# Altium schematic symbol library LimeMicroAltiumLib.SchLib: 659 symbols (part 15 of 22)
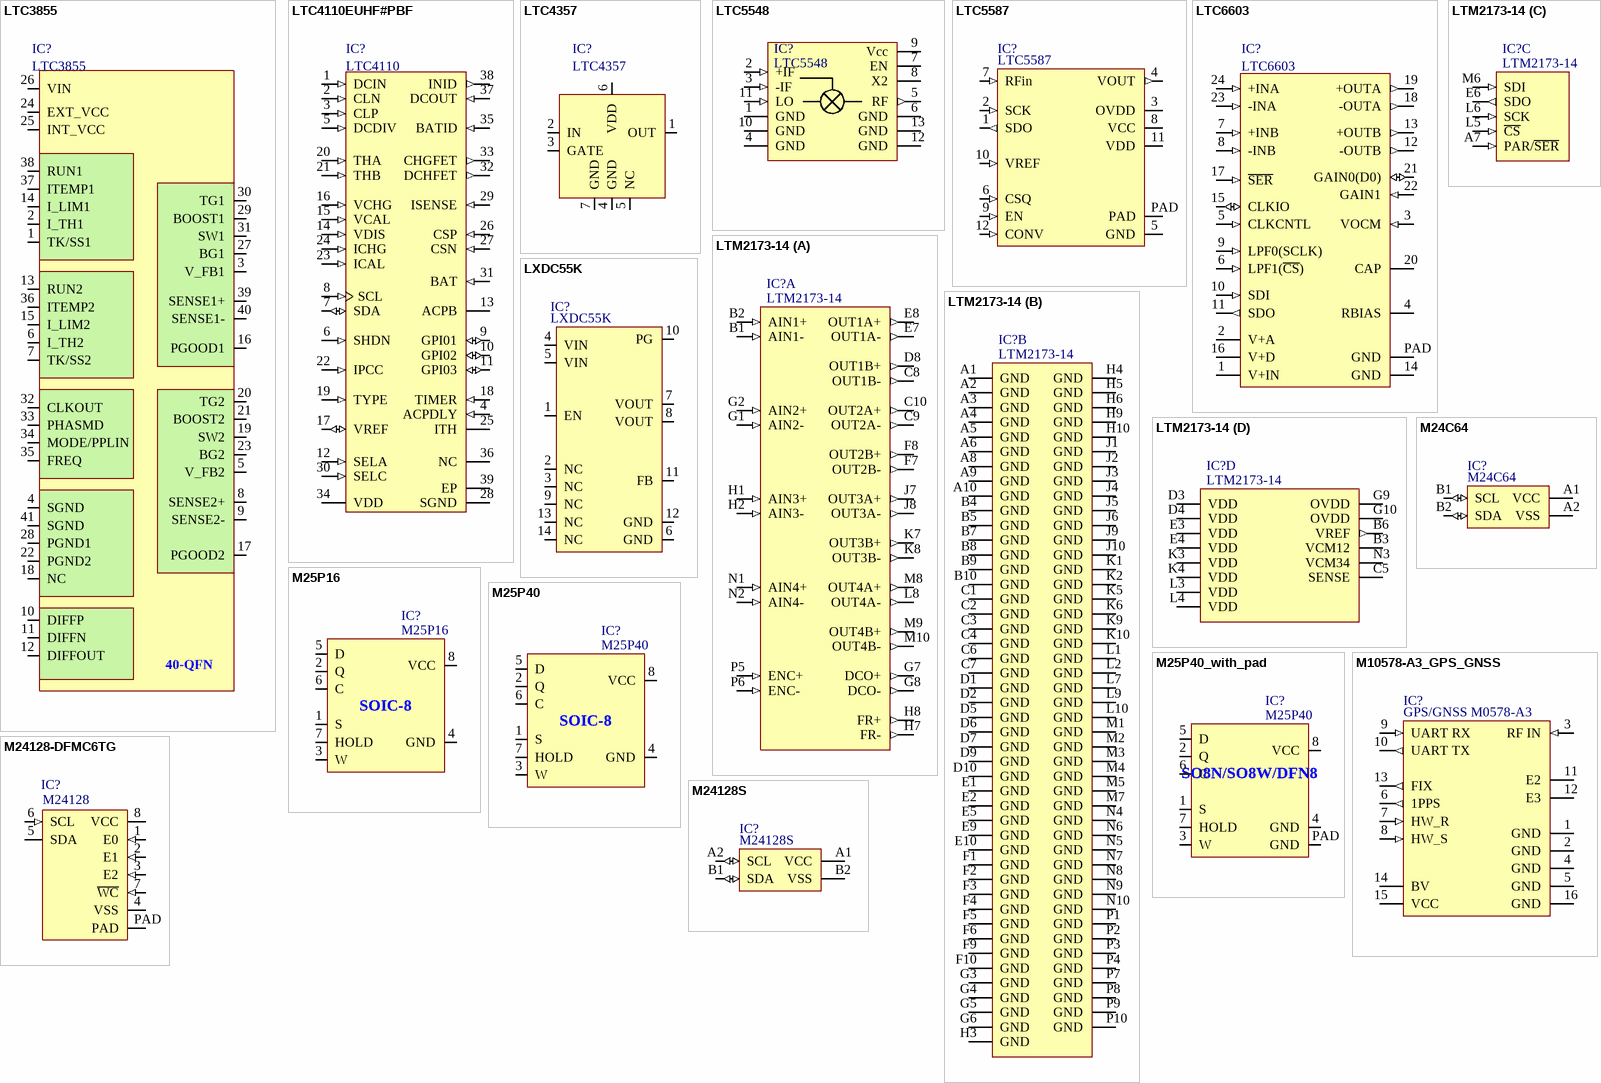
[diagram p92: symbols LTC3855 to M24128S]

## LTC4110EUHF#PBF
designator IC?, comment LTC4110
Battery Backup System Manager, 4.5 to 19 V Vin, 38-pin QFN (UHF-38), -40 to 85 degC, Pb-Free; Part Description: Battery Multi-Function Controller IC Multi-Chemistry 38-QFN (5x7); Manufacturer Part Number 1: LTC4110EUHF#PBF; Manufacturer: Linear Technology/Analog Devices; Supplier 1: Digi-Key; Supplier Part Number 1: LTC4110EUHF#PBF-ND
footprint LTC4110EUHF#PBF_QFN38 (QFN, 38-Leads, Body 7.1x5.1mm, Pitch 0.5mm, Thermal Pad 3.15x5.15mm, IPC Low Density)
pins: 1 DCIN (in) "External DC Power Sense Input. Provides a control input and supply for the main supply ideal diode function.", 2 CLN (in) "Current Limit Sense Negative Input. See CLP pin.", 3 CLP (in) "Current Limit Sense Positive Input. This pin and the CLN pin form a differential input that senses voltage on an external resistor for reverse current entering the power source while in low loss calibration mode. Should the (See Datasheet)", 4 ACPDLY (in) "ACPb Delay Control Pin. A capacitor connected from ACPDLY to GND and a resistor from VREF to GND programs delay in the ACPb pin high-to-low transition. Open if minimum delay is desired.", 5 DCDIV (in) "AC Present Detection Input. Backup operation is invoked when the system power voltage, divided by an external resistor divider, falls below the threshold of this pin.", 6 SHDN (in) "Active High Shutdown/Reset Control Logic Input. Forces micropower shutdown mode if high when DCIN supply is removed. Forces all registers to reset if high when DCIN supply is present. Normally tied to ground. Internal pin (See Datasheet)", 7 SDA (io) "SMBus Bidirectional Data Signal. Connect to VDD when not in use.", 8 SCL (in) "SMBus Clock Signal Input From SMBus Host. Connect to VDD when not in use.", 9 GPI01 (io) "General Purpose I/O or Charge Status Pin. A logic-level I/O bit port that is configurable as a host-driven input/output port or as a battery charge status output (CHGb) with an open-drain N-MOSFET that is asserted low when (See Datasheet)", 10 GPI02 (io) "General Purpose I/O Pin. A logic-level I/O bit port that is configurable as a host-driven input/output port or as a battery undervoltage status output (BKUP_FLTb) with an open-drain N-MOSFET that is asserted low only while (See Datasheet)", 11 GPI03 (io) "General Purpose I/O Pin. A logic-level I/O bit port that is configurable as a host-driven input/output port or as a calibration complete status output (CAL_COMPLETEb) with an open-drain N-MOSFET that is asserted low when (See Datasheet)", 12 SELA (in) "SMBus Address Selection Input. Selects the LTC4110 SMBus address to facilitate redundant backup systems when standard batteries are used. Connect to GND for 12h, VDD for 28h and the VREF pin for 20h. When a smart battery is (See Datasheet)", 13 ACPB (oc) "AC Present Status Digital Output. Open-Drain N-MOSFET output is asserted low when the main supply is present as detected by the DCDIV pin and internal DCIN UVLO.", 14 VDIS (in) "Battery Discharge Voltage Limit During Backup Program Input. Battery threshold voltage at which backup mode will terminate by turning off the isolation P-MOSFET with the BATID pin. Adjustable from external resistor string (See Datasheet)", 15 VCAL (in) "Battery Voltage Limit During Calibration Program Input. Battery threshold voltage at which calibration will terminate. Adjustable from external resistor string biased from VREF pin. For default threshold connect to GND pin.", 16 VCHG (in) "Battery Float Voltage Program Input. Trims the float voltage during charging. Programmed from external resistor string biased from VREF pin. Connect to GND for default float voltage.", 17 VREF (io) "Voltage Reference Output and Timing Programming Input. Provides a typical virtual reference of 1.220V (VREF) for an external resistor divider tied between this pin and GND that programs the VCHG, VCAL and VDIS pin functions. (See Datasheet)", 18 TIMER (in) "Charge Timing Input. A capacitor connected between TIMER and GND along with the resistance connected from VREF to GND programs the charge time intervals.", 19 TYPE (in) "Refer to Table 8.", 20 THA (in) "Safety Signal Force/Sense Pin to Smart Battery and Force Pin to Lead Acid Battery Thermistor. See description of operation for more detail. The maximum allowed combined capacitance on THA, THB and Safety Signal is 1nF. For (See Datasheet)", 21 THB (in) "Safety Signal Force/Sense Pin to Smart Battery and Sense Pin to Lead Acid Battery Thermistor. See description of operation for more detail. The maximum allowed combined capacitance on THA, THB and Safety Signal is 1nF.", 22 IPCC (in) "Battery Preconditioning Charge Current Program Input. Programs the battery current during preconditioning or wakeup charging. Programmed from external resistor to GND.", 23 ICAL (in) "Battery Discharge Current During Calibration Program Input. Programs the constant discharge current at the battery during calibration. Programmed from external resistor to GND.", 24 ICHG (in) "Battery Current During Charge Program Input. Programs the battery current while constant-current bulk charging. Programmed from external resistor to GND.", 25 ITH "Control Signal of the Current Mode PWM. AC compensates control loop. Higher ITH voltage corresponds to higher charging current.", 26 CSP (in) "Current Sense Positive Input. This pin and the CSN pin measure voltage across the external current sense resistor to control battery current during charging and calibration.", 27 CSN (in) "Current Sense Negative Input. This pin and the CSP pin measure voltage across the external current sense resistor to control battery current during charging and calibration.", 28 SGND (power) "Signal Ground Reference Input. This pin should be Kelvin connected to the flyback current sense resistor and to the battery return.", 29 ISENSE (in) "Current Sense Input. Senses current in the flyback transformer by monitoring voltage across the external current sense resistor. This pin should be Kelvinconnected to the resistor.", 30 SELC (in) "Refer to Table 8.", 31 BAT (in) "Battery Voltage Sense Input. This pin is used to monitor the battery and control charging voltage through an internal resistor divider connected to this pin that is disconnected in shutdown mode. Also provides a control (See Datasheet)", 32 DCHFET (out) "Drives the Gate of an External N-MOSFET. Used to drive energy into the battery side of the high efficiency switch mode converter during low loss calibration discharge of the battery. Provides synchronous rectification during (See Datasheet)", 33 CHGFET (out) "Drives the Gate of an External N-MOSFET. Used to drive energy into the supply side of the high efficiency switch mode converter during battery charging. Provides synchronous rectification during low loss calibration mode.", 34 VDD (power) "Bypass Capacitor Connection for Internal VDD Regulator. Bypass at pin with 100nF low ESR capacitor to GND.", 35 BATID (in) "Drives the Gate of the Battery P-MOSFET Ideal Diode. Controls low loss ideal diode between the battery and backup load when in backup mode. When not in backup mode, the P-MOSFET is turned off to prevent battery power from (See Datasheet)", 36 NC "No Connect.", 37 DCOUT (in) "System Power Output Voltage Monitor Input. Provides a control input for supply input ideal diode and battery ideal diode functions. Also supplies power to the IC. Bypass at pin with 100nF low ESR capacitor to GND.", 38 INID (out) "Drives the Gate of the Supply Input P-MOSFET Ideal Diode. Controls low loss ideal diode between the supply input and backup load when not in backup mode.", 39 EP (power) "Ground. The Exposed Pad must be soldered to the PCB."

## LTC4357
designator IC?
Manufacturer Part Number: LTC4357IDCB#TRMPBF; Current - Supply: 500µA; Delay Time - OFF: 300ns; Voltage - Supply: 9 V ~ 80 V; FET Type: N-Channel; Supplier 1: Digi-Key; Type: N+1 ORing Controller; Category: Integrated Circuits (ICs); Applications: Automotive, Redundant Power Supplies, Telecom Infrastructure; Operating Temperature: -40°C ~ 85°C; Supplier Device Package: 6-DFN (2x3); Supplier Part Number: LTC4357IDCB#TRMPBFDKR-ND
footprint LTC4357 (SON, 6-Leads, Body 2,00x3,00mm, Pitch 0,50mm, Thermal Pad 1,35x1,12mm, IPC Medium Density)
pins: 1 OUT, 2 IN, 3 GATE, 4 GND, 5 NC, 6 VDD, 7 GND

## LTC5548
designator IC?
Frequency Mixer 2 GHz to 12 GHz; Manufacturer: Analog Devices / Linear Technology; Manufacturer Part Number: LTC5548IUDB#TRMPBF; Frequency: 14GHz; Noise Figure: 9.6dB; Operating Supply Current: 136mA; Min Supply Voltage: 3V; Max Supply Voltage: 3.6V; Supplier 1: Digi-Key; Stock 1: 1418; Pricing 1: 1=19.06, 25=15.2464, 100=12.425, 250=12.14472 (USD); Case/Package: QFN; Number of Pins: 12; Min Operating Temperature: -40°C; Max Operating Temperature: 105°C; Packaging: Tape and Reel; Max Frequency: 14GHz; REACH SVHC: No SVHC; Supplier Part Number 1: LTC5548IUDB#TRMPBFCT-ND
footprint LTC5548_FROM_ULTRA_LABRARIAN
pins: 1 GND, 2 +IF (in), 3 -IF (in), 4 GND, 5 RF (out), 6 GND, 7 EN, 8 X2, 9 Vcc, 10 GND, 11 LO (in), 12 GND, 13 GND

## LTC5587
designator IC?
Manufacturer: Linear Technology/Analog Devices; Manufacturer Part Number: LTC5587IDD#TRPBF; Part Description: RF Detector IC CDMA, GSM, EDGE, W-CDMA 10MHz ~ 6GHz -34dBm ~ 6dBm ±1dB 12-WFDFN Exposed Pad; Frequency: 10MHz ~ 6GHz; RF Type: CDMA, GSM, EDGE, W-CDMA; Input Range: -34dBm ~ 6dBm; Accuracy: ±1dB; Voltage - Supply: 2.7 V ~ 3.6 V; Supplier 1: Digi-Key; RoHS: RoHS Compliant; Category: RF/IF and RFID; Stock 1: 0; Pricing 1: 2500=6.49745 (USD); Packaging: Tape & Reel (TR); Part Status: Active; Package / Case: 12-WFDFN Exposed Pad; Supplier Device Package: 12-DFN (3x3); ComponentLink1URL: http://www.linear.com/docs/29700; ComponentLink1Description: http://www.linear.com/docs/29700; Supplier Part Number 1: LTC5587IDD#TRPBFTR-ND
footprint LTC5587_DFN12
pins: 1 SDO (out), 2 SCK (in), 3 OVDD (power), 4 VOUT (out), 5 GND, 6 CSQ (in), 7 RFin (in), 8 VCC (power), 9 EN (in), 10 VREF (in), 11 VDD (power), 12 CONV (in), PAD

## LTC6603
designator IC?
Part Description: Low Pass Filter IC Low Pass 9th Order 2.5MHz 24-QFN (4x4); Manufacturer: Analog Devices / Linear Technology; Manufacturer Part Number 1: LTC6603IUF#PBF; Nominal Gain Bandwidth Product: 2.5MHz; Max Supply Voltage: 3.6V; Min Supply Voltage: 2.7V; Operating Supply Voltage: 3V; Number of Circuits: 2; Input Offset Voltage (Vos): 8mV; Supplier 1: Mouser; Supplier Part Number 1: 584-LTC6603IUF#PBF; Stock 1: 219; Pricing 1: 1=16,66000, 25=13,32000, 100=10,86000, 250=10,61000, 500=10,20000 (USD); RoHS: Yes; Case/Package: QFN; Number of Pins: 24; Min Operating Temperature: -40°C; Max Operating Temperature: 85°C; Package Quantity: 91; Type: Active; Packaging: Rail/Tube; Number of Channels: 2; Radiation Hardening: No; Lead Free: Lead Free; ComponentLink1URL: https://datasheet.ciiva.com/1779/26885-1779299.pdf?src-supplier=Digi-Key; ComponentLink1Description: https://datasheet.ciiva.com/1779/26885-1779299.pdf?src-supplier=Digi-Key; ComponentLink2URL: https://datasheet.ciiva.com/1150/1712310-1150994.pdf?src-supplier=Element14; ComponentLink2Description: https://datasheet.ciiva.com/1150/1712310-1150994.pdf?src-supplier=Element14; ComponentLink3URL: https://datasheet.ciiva.com/1153/1712310-1153853.pdf?src-supplier=Farnell; ComponentLink3Description: https://datasheet.ciiva.com/1153/1712310-1153853.pdf?src-supplier=Farnell
footprint LTC6603_QFN24
pins: 1 V+IN (power) "Input Voltage Supply (2.7V =< V =< 5.5V). This supply must be kept free from noise and ripple. It should be bypassed directly to a ground plane with a 0.1uF capacitor unless it is tied to V+A (Pin 2). The bypass should be as (See Datasheet)", 2 V+A (power) "Analog Voltage Supply (2.7V =< V =< 3.6V). This supply must be kept free from noise and ripple. It should be bypassed directly to a ground plane with a 0.1uF capacitor. The bypass should be as close as possible to the IC.", 3 VOCM (in) "Output common mode voltage reference. If floated, an internal resistive divider sets the voltage on this pin to half the supply voltage (typically 1.5V), maximizing the dynamic range of the filter. If this pin is floated, it (See Datasheet)", 4 RBIAS "Oscillator Frequency-Setting Resistor Input. The value of the resistor connected between this pin and ground determines the frequency of the master oscillator, and sets the bias currents for the fi lter networks. The voltage (See Datasheet)", 5 CLKCNTL (in) "Clock Control Input. This three-state input selects the function of CLKIO (Pin 15). Tying the CLKCNTL pin to ground allows the CLKIO pin to be driven by an external clock (CLKIO is the master clock input).", 6 LPF1(~{CS}) (in) "TTL Level Input. When in pin programmable control mode, this pin is the MSB of the lowpass cutoff frequency control code; in serial control mode, this pin is the chip select input (active low).", 7 +INB (in) "Channel B Differential Inputs. The input range and input resistance are described in the Applications Information section. Input voltages which exceed V+IN (Pin 1) should be avoided.", 8 -INB (in) "Channel B Differential Inputs. The input range and input resistance are described in the Applications Information section. Input voltages which exceed V+IN (Pin 1) should be avoided.", 9 LPF0(SCLK) (in) "TTL Level Input. When in pin programmable control mode, this pin is the LSB of the lowpass cutoff frequency control code; in serial control mode, this pin is the clock of the serial interface.", 10 SDI (in) "TTL Level Input. When in pin programmable control mode, this pin is left floating; in serial control mode, this pin is the serial data input.", 11 SDO (out) "TTL Level Input. When in pin programmable control mode, this pin is left floating; in serial control mode, this pin is the serial data output.", 12 -OUTB (out) "Channel B differential filter outputs. These pins can drive 1k and/or 50pF loads. For larger capacitive loads, an external 100ohm series resistor is recommended for each output. The common mode voltage of the filter outputs (See Datasheet)", 13 +OUTB (out) "Channel B differential filter outputs. These pins can drive 1k and/or 50pF loads. For larger capacitive loads, an external 100ohm series resistor is recommended for each output. The common mode voltage of the filter outputs (See Datasheet)", 14 GND (power) "Ground. Connect to a ground plane for best performance.", 15 CLKIO (io) "When CLKCNTL (Pin 5) is tied to ground, CLKIO is the master clock input. When CLKCNTL is floated, CLKIO is pulled to ground by a weak pulldown. When CLKCNTL is tied to V+D (Pin 16), CLKIO is the master clock output. When (See Datasheet)", 16 V+D (power) "Digital Voltage Supply (2.7V =< V =< 3.6V). This supply must be kept free from noise and ripple. It should be bypassed directly to a ground plane with a 0.1uF capacitor. The bypass should be as close as possible to the IC.", 17 ~{SER} (in) "Interface Selection Input. When tied to V+D (Pin 16) or floated, the interface is in pin programmable control mode, i.e. the filter gain and cutoff frequencies are programmed by the GAIN1, GAIN0, LPF1 and LPF0 pins. When (See Datasheet)", 18 -OUTA (out) "Channel A differential filter outputs. These pins can drive 1k and/or 50pF loads. For larger capacitive loads, an external 100ohm series resistor is recommended for each output. The common mode voltage of the filter outputs (See Datasheet)", 19 +OUTA (out) "Channel A differential filter outputs. These pins can drive 1k and/or 50pF loads. For larger capacitive loads, an external 100ohm series resistor is recommended for each output. The common mode voltage of the filter outputs (See Datasheet)", 20 CAP "Connect a 0.1uF bypass capacitor to this pin. Pin 20 is a buffered version of Pin 3.", 21 GAIN0(D0) (io) "TTL Level Input. When in pin programmable control mode, this pin is the LSB of the gain control code; in serial control mode, this pin is the LSB of the serial control register, an output.", 22 GAIN1 (in) "TTL Level Input. When in pin programmable control mode, this pin is the MSB of the gain control code; in serial control mode, this pin is a no-connect.", 23 -INA (in) "Channel A Differential Inputs. The input range and input resistance are described in the Applications Information section. Input voltages which exceed V+IN (Pin 1) should be avoided.", 24 +INA (in) "Channel A Differential Inputs. The input range and input resistance are described in the Applications Information section. Input voltages which exceed V+IN (Pin 1) should be avoided.", PAD GND (power) "Ground. The Exposed Pad must be soldered to PCB."

## LTM2173-14
designator IC?
Analog to Digital Converters - ADC 14-bit, 80Msps, 1.8V Low Noise Quad ADC, Serial LVDS Outputs; Manufacturer: Analog Devices; Manufacturer Part Number 1: LTC2271IUKG#PBF; Supplier Part Number 1: 584-LTC2271IUKG#PBF; Part Description: Analog to Digital Converters - ADC 14-bit, 80Msps, 1.8V Low Noise Quad ADC, Serial LVDS Outputs; Supplier 1: Mouser
footprint LTM2173_14_BGA9x11.25_140
part A pins: B1 AIN1- (in), B2 AIN1+ (in), C8 OUT1B- (out), C9 OUT2A- (out), C10 OUT2A+ (out), D8 OUT1B+ (out), E7 OUT1A- (out), E8 OUT1A+ (out), F7 OUT2B- (out), F8 OUT2B+ (out), G1 AIN2- (in), G2 AIN2+ (in), G7 DCO+ (out), G8 DCO- (out), H1 AIN3+ (in), H2 AIN3- (in), H7 FR- (out), H8 FR+ (out), J7 OUT3A+ (out), J8 OUT3A- (out), K7 OUT3B+ (out), K8 OUT3B- (out), L8 OUT4A- (out), M8 OUT4A+ (out), M9 OUT4B+ (out), M10 OUT4B- (out), N1 AIN4+ (in), N2 AIN4- (in), P5 ENC+ (in), P6 ENC- (in)
part B pins: A1 GND, A2 GND, A3 GND, A4 GND, A5 GND, A6 GND, A8 GND, A9 GND, A10 GND, B4 GND, B5 GND, B7 GND, B8 GND, B9 GND, B10 GND, C1 GND, C2 GND, C3 GND, C4 GND, C6 GND, C7 GND, D1 GND, D2 GND, D5 GND, D6 GND, D7 GND, D9 GND, D10 GND, E1 GND, E2 GND, E5 GND, E9 GND, E10 GND, F1 GND, F2 GND, F3 GND, F4 GND, F5 GND, F6 GND, F9 GND, F10 GND, G3 GND, G4 GND, G5 GND, G6 GND, H3 GND, H4 GND, H5 GND, H6 GND, H9 GND, H10 GND, J1 GND, J2 GND, J3 GND, J4 GND, J5 GND, J6 GND, J9 GND, J10 GND, K1 GND, K2 GND, K5 GND, K6 GND, K9 GND, K10 GND, L1 GND, L2 GND, L7 GND, L9 GND, L10 GND, M1 GND, M2 GND, M3 GND, M4 GND, M5 GND, M7 GND, N4 GND, N5 GND, N6 GND, N7 GND, N8 GND, N9 GND, N10 GND, P1 GND, P2 GND, P3 GND, P4 GND, P7 GND, P8 GND, P9 GND, P10 GND
part C pins: A7 PAR/~{SER} (in), E6 SDO (out), L5 ~{CS} (in), L6 SCK (in), M6 SDI (in)
part D pins: B3 VCM12 (power), B6 VREF (out), C5 SENSE (power), D3 VDD (power), D4 VDD (power), E3 VDD (power), E4 VDD (power), G9 OVDD (power), G10 OVDD (power), K3 VDD (power), K4 VDD (power), L3 VDD (power), L4 VDD (power), N3 VCM34 (power)

## LXDC55K
designator IC?
LXDC55KAAA-205; Manufacturer: Murata Electronics North America; Power (Watts) - Manufacture Series: 11W; Current - Output (Max): 3A; Efficiency: 93%; Voltage - Input (Min): 2.7V; Voltage - Input (Max): 5.5V; Voltage - Output 1: 0.8 ~ 3.6 V; Number of Outputs: 1; Supplier 1: Digi-Key; Manufacturer Part Number 1: LXDC55KAAA-205; Category: Power Supplies - Board Mount; Type: Non-Isolated PoL Module; Package / Case: 14-SMD Module; Voltage - Output 3: -; Mounting Type: Surface Mount; Applications: ITE (Commercial); RoHS: RoHS Compliant; Power (Watts) - Max: 11W; Voltage - Output 2: -; Features: OCP, OTP, UVLO; Operating Temperature: -40°C ~ 85°C; Packaging: Digi-Reel®; Voltage - Isolation: -; Size / Dimension: 0.224" L x 0.224" W x 0.079" H (5.70mm x 5.70mm x 2.00mm); Supplier Part Number 1: 490-7312-6-ND
footprint LXDC55K
pins: 1 EN, 2 NC, 3 NC, 4 VIN, 5 VIN, 6 GND, 7 VOUT, 8 VOUT, 9 NC, 10 PG, 11 FB, 12 GND, 13 NC, 14 NC

## M24C64
designator IC?
Manufacturer Part Number 1: M24C64-FCU6TP/TF; Access Time: 450 ns; Organization: 8 k x 8; Brand: STMicroelectronics; Supply Current - Max: 1.5 mA, 2.5 mA; Interface Type: I2C; Memory Size: 64 kbit; Maximum Clock Frequency: 1 MHz; Data Retention: 200 Years; Supply Voltage - Max: 5.5 V; Operating Supply Voltage: 1.6 V to 5.5 V; Supply Voltage - Min: 1.6 V; Product Status: New Product; Supplier 1: Mouser; Manufacturer: STMicroelectronics; Series: Standard Serial EEPROM; Category: EEPROM; Mounting Style: SMD/SMT; RoHS: RoHS Compliant; Package / Case: WLCSP-4; Operating Supply Current: 1.5 mA, 2.5 mA; Maximum Operating Temperature: + 85 C; Minimum Operating Temperature: - 40 C; RoHS - Mouser: Y; Minimum Order Quantity: 1; Reeling: False; Supplier Part Number 1: 511-M24C64-FCU6TP/TF
footprint M24C64
pins: A1 VCC, A2 VSS, B1 SCL (io), B2 SDA (io)

## M25P16
designator IC?
Manufacturer: Micron Technology Inc; Voltage - Supply: 2.7 V ~ 3.6 V; Memory Size: 16M (2M x 8); Speed: 75MHz; Supplier 1: Digi-Key; Supplier: Digi-Key; Supplier Device Package: 8-SO W; Supplier Part Number: M25P16-VMW6TGCT-ND
footprint M25P16_SO8 (SOIC, 8-Leads, Body 4,90x3,90mm, Pitch 1,27mm, IPC Medium Density)
pins: 1 S, 2 Q, 3 W, 4 GND, 5 D, 6 C, 7 HOLD, 8 VCC
text: SOIC-8

## M25P40
designator IC?
Manufacturer: Micron Technology Inc; Memory Size: 4M (512K x 8); Voltage - Supply: 2.3 V ~ 3.6 V; Supplier 1: Digi-Key; Supplier Device Package: 8-SO; Supplier: Digi-Key; Supplier Part Number: M25P40-VMN6TPBTR-ND
footprint M25P40-VMN6TPB_SO8N (SOIC, 8-Leads, Body 4,90x3,90mm, Pitch 1,27mm, IPC Medium Density)
pins: 1 S, 2 Q, 3 W, 4 GND, 5 D, 6 C, 7 HOLD, 8 VCC
text: SOIC-8

## M25P40_with_pad
designator IC?, comment M25P40
Manufacturer: Micron Technology Inc; Memory Size: 4M (512K x 8); Voltage - Supply: 2.3 V ~ 3.6 V; Supplier 1: Digi-Key; Supplier Device Package: 8-SO; Supplier: Digi-Key; Supplier Part Number: M25P40-VMN6TPBTR-ND
footprint S25FL164K_WSON8_DFN6 (WSON8 and DFN8 6x5mm compatible footprint)
pins: 1 S, 2 Q, 3 W, 4 GND, 5 D, 6 C, 7 HOLD, 8 VCC, PAD GND
text: SO8N/SO8W/DFN8

## M10578-A3_GPS_GNSS
designator IC?, comment GPS/GNSS M0578-A3
Manufacturer: Antenova; Manufacturer Part Number 1: M10578-A3; Part Description: RADIONOVA RF Receiver GPS 1.575GHz -165dBm Module; Frequency: 1.575GHz; Sensitivity: -165dBm; Modulation or Protocol: GPS; Current - Receiving: 28mA; Data Interface: UART; Voltage - Supply: 3.3V; Supplier 1: Digi-Key; RoHS: RoHS Compliant; Category: RF/IF and RFID; Stock 1: 0; Pricing 1: 1=17.75, 10=16.061, 25=14.7928, 100=13.5248, 250=12.67952, 500=11.8342 (USD); Packaging: Cut Tape (CT); Part Status: Active; Data Rate (Max): -; Applications: General Purpose; Memory Size: -; Antenna Connector: -; Features: -; Operating Temperature: -40°C ~ 85°C; Package / Case: Module; Supplier Device Package: Module; ComponentLink1URL: http://www.antenova-m2m.com/wp-content/uploads/2015/12/GPS_Radionova_M10578-A3-PS-1.0.pdf; ComponentLink1Description: http://www.antenova-m2m.com/wp-content/uploads/2015/12/GPS_Radionova_M10578-A3-PS-1.0.pdf; Supplier Part Number 1: 627-1074-1-ND
footprint M10578-A3 (RADIONOVA® RF Receiver GPS 1.575GHz -165dBm Module)
pins: 1 GND, 2 GND, 3 RF IN (in), 4 GND, 5 GND, 6 1PPS (out), 7 HW_R (in), 8 HW_S (in), 9 UART RX (in), 10 UART TX (out), 11 E2, 12 E3, 13 FIX (out), 14 BV (power), 15 VCC (power), 16 GND

## M24128-DFMC6TG
designator IC?, comment M24128
Manufacturer: STMicroelectronics; Manufacturer Part Number 1: M24128-DFMC6TG; Part Description: EEPROM Memory IC 128Kb (16K x 8) I²C 1MHz 450ns 8-UFDFPN (2x3); Memory Type: Non-Volatile; Memory Format: EEPROM; Memory Size: 128Kb (16K x 8); Write Cycle Time - Word, Page: 5ms; Memory Interface: I²C; Voltage - Supply: 1.7 V ~ 5.5 V; Supplier 1: Digi-Key; RoHS: RoHS Compliant; Category: Integrated Circuits (ICs); Stock 1: 5894; Pricing 1: 1=0.35, 10=0.348, 100=0.2854, 500=0.27748, 1000=0.27004 (USD); Packaging: Cut Tape (CT); Part Status: Active; Technology: EEPROM; Operating Temperature: -40°C ~ 85°C (TA); Mounting Type: Surface Mount; Package / Case: 8-UFDFN Exposed Pad; Supplier Device Package: 8-UFDFPN (2x3); ComponentLink1URL: http://www.st.com/content/ccc/resource/technical/document/datasheet/59/05/c9/5b/7b/41/48/b6/CD00259167.pdf/files/CD00259167.pdf/jcr:content/translations/en.CD00259167.pdf; ComponentLink1Description: http://www.st.com/content/ccc/resource/technical/document/datasheet/59/05/c9/5b/7b/41/48/b6/CD00259167.pdf/files/CD00259167.pdf/jcr:content/translations/en.CD00259167.pdf; Supplier Part Number 1: 497-15739-1-ND
footprint M24128-DFMC6TG (8-UFDFPN (2x3))
pins: 1 E0 (in), 2 E1 (in), 3 E2 (in), 4 VSS (power), 5 SDA (io), 6 SCL (in), 7 ~{WC} (in), 8 VCC (power), PAD (power)

## M24128S
designator IC?
Manufacturer: STMicroelectronics; Manufacturer Part Number 1: M24128S-FCU6T/T; Part Description: IC EEPROM 128KBIT 400KHZ 4WLCSP; Organization: 16 k x 8; Format - Memory: EEPROMs - Serial; Memory Type: EEPROM; Memory Size: 128K (16K x 8); Speed: 400kHz; Interface: I²C, 2-Wire Serial; Voltage - Supply: 1.7 V ~ 5.5 V; Supplier 1: Digi-Key; RoHS: RoHS Compliant; Category: Integrated Circuits (ICs); Stock 1: 1555; Pricing 1: 1=0.48, 10=0.473, 100=0.3883, 500=0.37752, 1000=0.3674 (USD); Packaging: Cut Tape (CT); Part Status: Active; Operating Temperature: -40°C ~ 85°C (TA); Package / Case: 4-XFBGA, WLCSP; Supplier Device Package: 4-WLCSP; ComponentLink1URL: http://www.st.com/content/ccc/resource/technical/document/datasheet/54/55/87/98/35/27/49/88/DM00103408.pdf/files/DM00103408.pdf/jcr:content/translations/en.DM00103408.pdf; ComponentLink1Description: http://www.st.com/content/ccc/resource/technical/document/datasheet/54/55/87/98/35/27/49/88/DM00103408.pdf/files/DM00103408.pdf/jcr:content/translations/en.DM00103408.pdf; Supplier Part Number 1: 497-15026-1-ND
footprint M24128S
pins: A1 VCC, A2 SCL (io), B1 SDA (io), B2 VSS

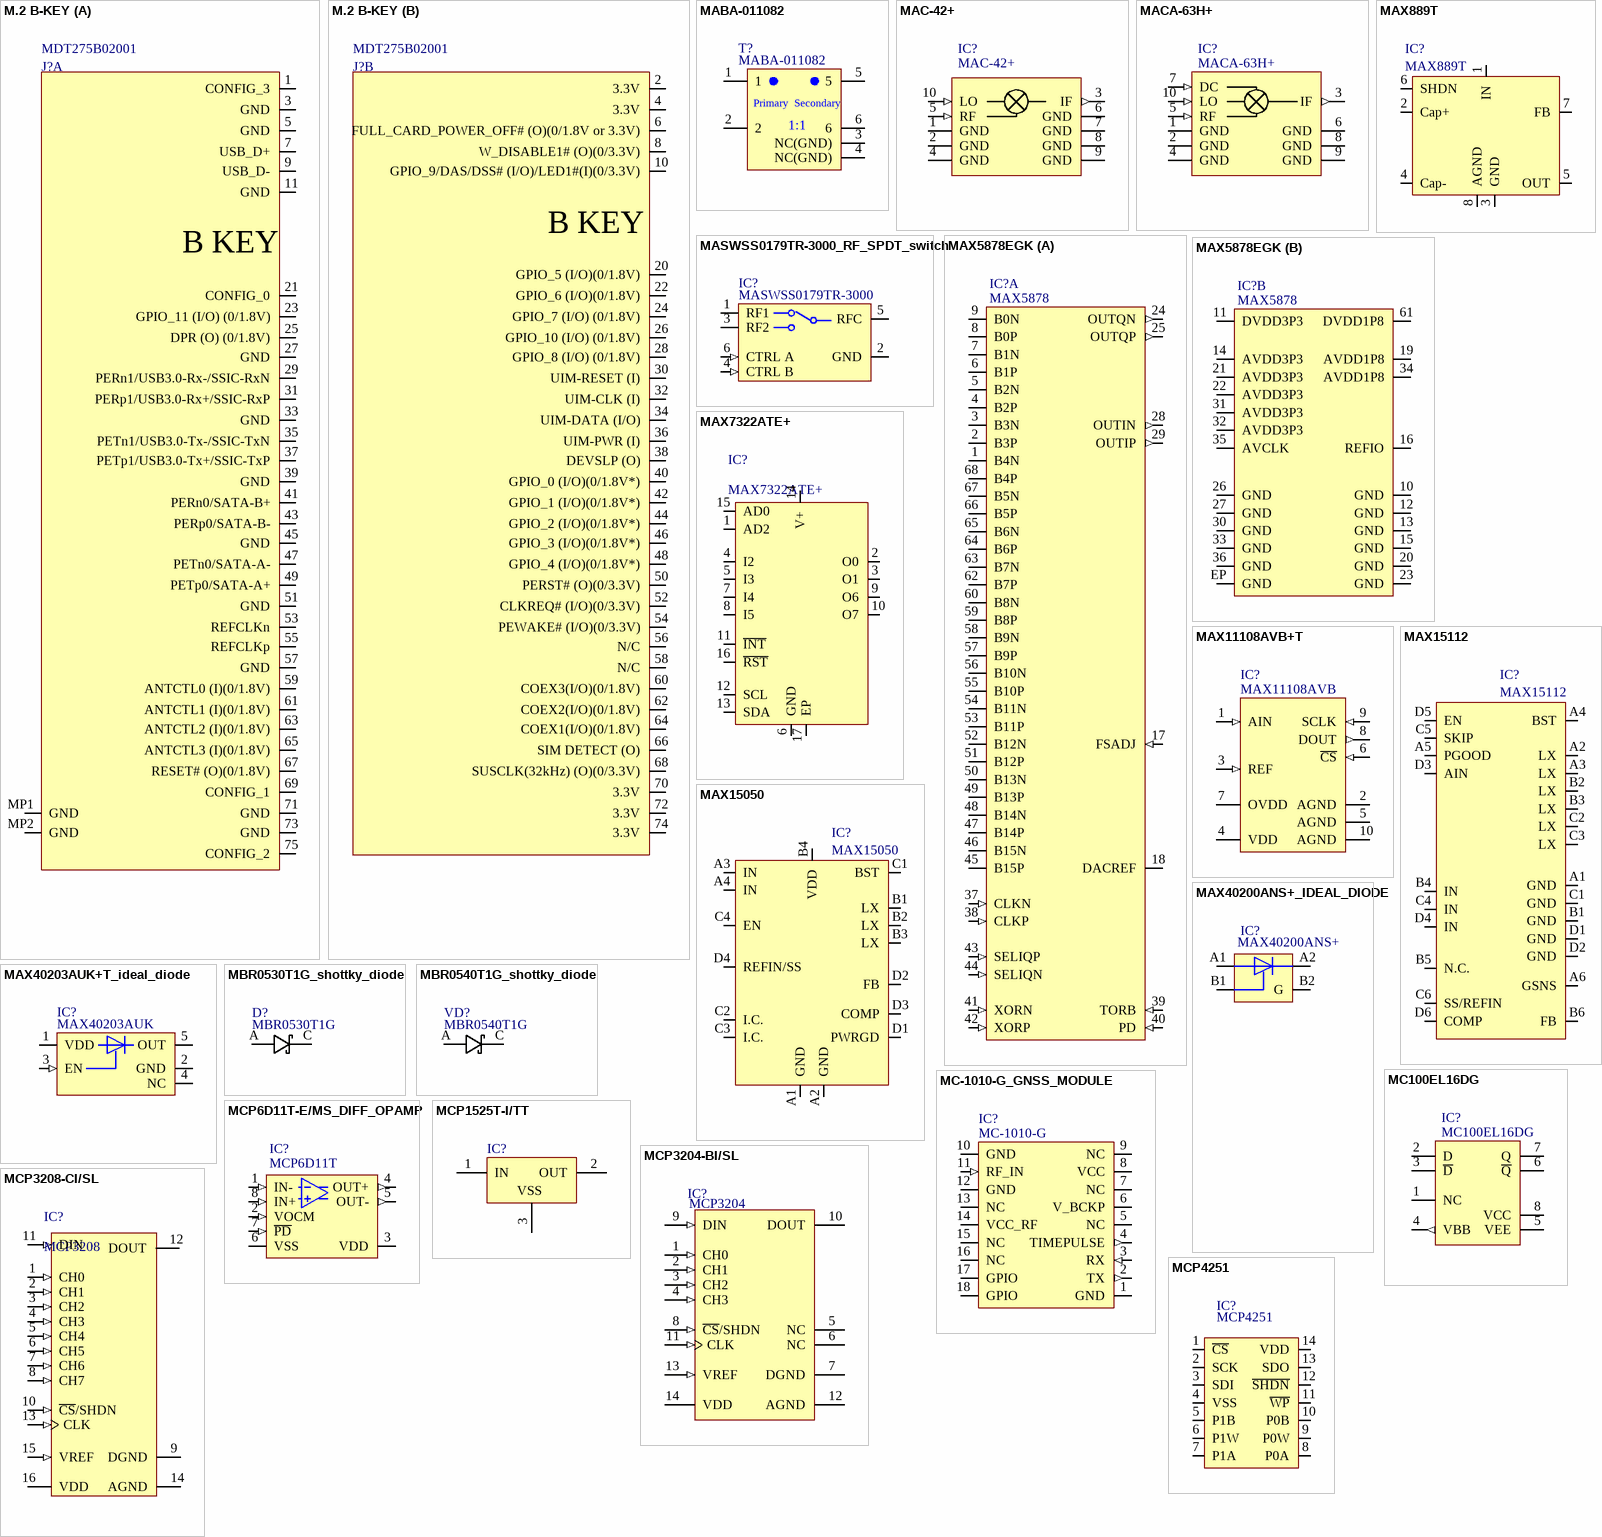
[diagram p60: symbols M.2 B-KEY to MCP4251]

## M.2 B-KEY
designator J?, comment MDT275B02001
CONN M.2 FEMALE 75POS; Part Description: 52 Position Female Connector PCI Express Mini Card Gold 0.031" (0.80mm) Black; Manufacturer: Amphenol Commercial; Number of Positions: 67; Pitch: 0.02inch; Supplier 1: Digi-Key; Stock 1: 45333; RoHS: Yes; Manufacturer Part Number 1: MDT275B02001; Pricing 1: 950=1,21682, 1900=1,15876, 2850=1,12611, 4750=1,08628, 6650=1,06083, 9500=1,03449 (USD); Mount: Surface Mount; Number of Pins: 67; Color: Black; Contact Plating: Gold; Insulation Material: Polymer; Contact Material: Copper Alloy; Min Operating Temperature: -40°C; Max Operating Temperature: 80°C; Gender: Female; Number of Rows: 2; Termination: Solder; Packaging: Tape and Reel; Series: M.2; Contact Type: -; ComponentLink1URL: https://www.amphenolcanada.com/ProductSearch/pdf/MDT_BRO.pdf?src-supplier=Digikey; ComponentLink1Description: https://www.amphenolcanada.com/ProductSearch/pdf/MDT_BRO.pdf?src-supplier=Digikey; Value: MDT275B02001; Supplier Part Number 1: MDT275B02001-ND
footprint MDT275B02001_M.2_B
part A pins: 1 CONFIG_3, 3 GND, 5 GND, 7 USB_D+, 9 USB_D-, 11 GND, 21 CONFIG_0, 23 GPIO_11 (I/O) (0/1.8V), 25 DPR (O) (0/1.8V), 27 GND, 29 PERn1/USB3.0-Rx-/SSIC-RxN, 31 PERp1/USB3.0-Rx+/SSIC-RxP, 33 GND, 35 PETn1/USB3.0-Tx-/SSIC-TxN, 37 PETp1/USB3.0-Tx+/SSIC-TxP, 39 GND, 41 PERn0/SATA-B+, 43 PERp0/SATA-B-, 45 GND, 47 PETn0/SATA-A-, 49 PETp0/SATA-A+, 51 GND, 53 REFCLKn, 55 REFCLKp, 57 GND, 59 ANTCTL0 (I)(0/1.8V), 61 ANTCTL1 (I)(0/1.8V), 63 ANTCTL2 (I)(0/1.8V), 65 ANTCTL3 (I)(0/1.8V), 67 RESET# (O)(0/1.8V), 69 CONFIG_1, 71 GND, 73 GND, 75 CONFIG_2, MP1 GND, MP2 GND
part B pins: 2 3.3V, 4 3.3V, 6 FULL_CARD_POWER_OFF# (O)(0/1.8V or 3.3V), 8 W_DISABLE1# (O)(0/3.3V), 10 GPIO_9/DAS/DSS# (I/O)/LED1#(I)(0/3.3V), 20 GPIO_5 (I/O)(0/1.8V), 22 GPIO_6 (I/O)(0/1.8V), 24 GPIO_7 (I/O) (0/1.8V), 26 GPIO_10 (I/O) (0/1.8V), 28 GPIO_8 (I/O) (0/1.8V), 30 UIM-RESET (I), 32 UIM-CLK (I), 34 UIM-DATA (I/O), 36 UIM-PWR (I), 38 DEVSLP (O), 40 GPIO_0 (I/O)(0/1.8V*), 42 GPIO_1 (I/O)(0/1.8V*), 44 GPIO_2 (I/O)(0/1.8V*), 46 GPIO_3 (I/O)(0/1.8V*), 48 GPIO_4 (I/O)(0/1.8V*), 50 PERST# (O)(0/3.3V), 52 CLKREQ# (I/O)(0/3.3V), 54 PEWAKE# (I/O)(0/3.3V), 56 N/C, 58 N/C, 60 COEX3(I/O)(0/1.8V), 62 COEX2(I/O)(0/1.8V), 64 COEX1(I/O)(0/1.8V), 66 SIM DETECT (O), 68 SUSCLK(32kHz) (O)(0/3.3V), 70 3.3V, 72 3.3V, 74 3.3V
part A text: B KEY
part B text: B KEY

## MABA-011082
designator T?
Part Description: RF Balun 5MHz ~ 8GHz 1:1 6-SMD Module; Manufacturer: TE Connectivity MA-COM; Supplier 1: Mouser; Supplier Part Number 1: 937-MABA-011082; Manufacturer Part Number 1: MABA-011082; Stock 1: 0; Pricing 1: 1=7,49000, 10=6,78000, 50=6,46000, 100=5,61000, 1000=4,73000, 10000=4,56000 (USD); RoHS: Yes; RoHS Compliant: No
footprint MABA-011082_balun
pins: 1, 2, 3 NC(GND), 4 NC(GND), 5, 6
text: Primary; Secondary; 1:1

## MAC-42+
designator IC?
Frequency Mixer 300 MHz to 12 GHz     LO Levels 4 to 17 dBm; Manufacturer: Mini-Circuits; Part Description: Frequency Mixer 300 MHz to 12 GHz     LO Levels 4 to 17 dBm; Supplier Part Number 1: MAC-42+; Supplier 1: Mini-Circuits; Manufacturer Part Number 1: MAC-42+
footprint MAC-42+_DZ1650
pins: 1 GND, 2 GND, 3 IF (out), 4 GND, 5 RF (in), 6 GND, 7 GND, 8 GND, 9 GND, 10 LO (in)

## MACA-63H+
designator IC?
Active Mixer: Level 0  (LO Power 0 dBm)   2000 to 6000 MHz; Manufacturer: Mini-Circuits; Supplier Part Number 1: MACA-63H+; Supplier 1: Mini-CIrcuits; Part Description: Active Mixer: Level 0  (LO Power 0 dBm)   2000 to 6000 MHz; Manufacturer Part Number 1: MACA-63H+
footprint MACA-63H+_DZ1034
pins: 1 GND, 2 GND, 3 IF (out), 4 GND, 5 RF (in), 6 GND, 7 DC (in), 8 GND, 9 GND, 10 LO (in)

## MASWSS0179TR-3000_RF_SPDT_switch
designator IC?, comment MASWSS0179TR-3000
Manufacturer: MACOM; Part Description: RF Switch IC Cellular SPDT 2 GHz 50Ohm SOT-26; Frequency: 2GHz; IIP3: 52dBm; Impedance: 50Ω; Insertion Loss (dB): 0.8dB; Max Supply Voltage: 3V; Number of Circuits: 1; Operating Supply Current: 1µA; P1dB: 16dBm; Throw Configuration: SPDT; Turn-Off Delay Time: 5ns; Turn-On Delay Time: 3µs; Supplier 1: DigiKey; Supplier Part Number 1: 1465-1387-1-ND; Manufacturer Part Number 1: MASWSS0179TR-3000; Stock 1: 3768; Pricing 1: 1=1,06, 10=0,767, 25=0,6924, 100=0,6108, 250=0,57184, 500=0,54834, 1000=0,52902 (USD); RoHS: Compliant; Case/Package: SOT-23-6; Lifecycle Status: Production; Max Frequency: 2GHz; Max Operating Temperature: 85°C; Min Operating Temperature: -40°C; Mount: Surface Mount; Number of Pins: 6; Number of Terminals: 6; Packaging: Cut Tape (CT); Radiation Hardening: No; REACH SVHC: Yes; Weight: 29.993795mg; ComponentLink1URL: https://datasheet.octopart.com:443/MASWSS0179TR-3000-MACOM-datasheet-180618267.pdf?src-supplier=IHS; ComponentLink1Description: https://datasheet.octopart.com:443/MASWSS0179TR-3000-MACOM-datasheet-180618267.pdf?src-supplier=IHS; ComponentLink2URL: https://datasheet.octopart.com:443/MASWSS0179TR-3000-MA-COM-datasheet-181463086.pdf?src-supplier=IHS; ComponentLink2Description: https://datasheet.octopart.com:443/MASWSS0179TR-3000-MA-COM-datasheet-181463086.pdf?src-supplier=IHS; ComponentLink3URL: https://datasheet.octopart.com:443/MASWSS0179TR-3000-MA-COM-datasheet-180616163.pdf?src-supplier=IHS; ComponentLink3Description: https://datasheet.octopart.com:443/MASWSS0179TR-3000-MA-COM-datasheet-180616163.pdf?src-supplier=IHS; ComponentLink4URL: https://datasheet.octopart.com:443/MASWSS0179TR-3000-MA-COM-datasheet-14183393.pdf?src-supplier=iiiC; ComponentLink4Description: https://datasheet.octopart.com:443/MASWSS0179TR-3000-MA-COM-datasheet-14183393.pdf?src-supplier=iiiC
footprint MASWSS0179TR-3000_SOT23-6_SC70 (Footprint not found)
pins: 1 RF1 (io), 2 GND, 3 RF2 (io), 4 CTRL B (in), 5 RFC (io), 6 CTRL A (in)

## MAX889T
designator IC?
Manufacturer Part Number 1: MAX889TESA+; Manufacturer: Maxim Integrated; Synchronous Rectifier: No; Voltage - Input: 2.7 V ~ 5.5 V; Current - Output: 200mA; Number of Outputs: 1; Output Type: Adjustable; Frequency - Switching: 2MHz; Voltage - Output: -2.5 V ~ -5.5 V; Supplier 1: Digi-Key; Packaging: Tube; Category: Integrated Circuits (ICs); Type: Switched Capacitor (Charge Pump), Inverting; Mounting Type: Surface Mount; Supplier Device Package: 8-SOIC N; Package / Case: 8-SOIC (0.154", 3.90mm Width); Operating Temperature: -40°C ~ 85°C; RoHS: RoHS Compliant; Supplier Part Number 1: MAX889TESA+-ND; Assembly Info: *
footprint MAX889T (SOIC, 8-Leads, Body 4,90x3,90mm, Pitch 1,27mm, IPC Medium Density)
pins: 1 IN, 2 Cap+, 3 GND, 4 Cap-, 5 OUT, 6 SHDN, 7 FB, 8 AGND

## MAX5878EGK
designator IC?, comment MAX5878
Part Description: 16 Bit Digital to Analog Converter 2 68-QFN-EP (10x10); Manufacturer: Maxim; Manufacturer Part Number 1: MAX5878EGK+D; Max Power Dissipation: 331mW; Number of DAC Channels: 2; Max Supply Voltage: 3.465V; Min Supply Voltage: 3.135V; Interface: Parallel,LVDS; Settling Time: 14ns; Number of Bits: 16; Sampling Rate: 250000000S/s; Resolution: 16b; Supply Type: Analog,Digital; Conversion Rate: 250MS/s; Integral Nonlinearity (INL): 3LSB; Supplier 1: Digi-Key; Supplier Part Number 1: MAX5878EGK+D-ND; Stock 1: 52; Pricing 1: 1=23,84000, 10=21,99000, 25=21,00200, 100=20,44800 (USD); RoHS: Yes; Mount: Surface Mount; Case/Package: QFN; Number of Pins: 68; Min Operating Temperature: -40°C; Max Operating Temperature: 85°C; Packaging: Rail/Tube; Package Quantity: 30; Number of Converters: 2; Radiation Hardening: No; REACH SVHC: Unknown; ComponentLink1URL: https://datasheet.ciiva.com/1399/max5878-1399152.pdf?src-supplier=Digi-Key; ComponentLink1Description: https://datasheet.ciiva.com/1399/max5878-1399152.pdf?src-supplier=Digi-Key; ComponentLink2URL: https://datasheet.ciiva.com/16604/max5878-16604848.pdf?src-supplier=Avnet+Europe; ComponentLink2Description: https://datasheet.ciiva.com/16604/max5878-16604848.pdf?src-supplier=Avnet+Europe; ComponentLink3URL: https://datasheet.ciiva.com/12285/max5878-106739-12285938.pdf?src-supplier=Mouser; ComponentLink3Description: https://datasheet.ciiva.com/12285/max5878-106739-12285938.pdf?src-supplier=Mouser; ComponentLink4URL: https://datasheet.ciiva.com/26805/max5878egk-d-26805730.pdf?src-supplier=IIIC; ComponentLink4Description: https://datasheet.ciiva.com/26805/max5878egk-d-26805730.pdf?src-supplier=IIIC; ComponentLink5URL: https://datasheet.ciiva.com/14250/max5878-14250858.pdf?src-supplier=Avnet; ComponentLink5Description: https://datasheet.ciiva.com/14250/max5878-14250858.pdf?src-supplier=Avnet
footprint MAX5878_QFN68
part A pins: 1 B4N, 2 B3P, 3 B3N, 4 B2P, 5 B2N, 6 B1P, 7 B1N, 8 B0P, 9 B0N, 17 FSADJ (in), 18 DACREF, 24 OUTQN (out), 25 OUTQP (out), 28 OUTIN (out), 29 OUTIP (out), 37 CLKN (in), 38 CLKP (in), 39 TORB (in), 40 PD (in), 41 XORN (in), 42 XORP (in), 43 SELIQP (in), 44 SELIQN (in), 45 B15P, 46 B15N, 47 B14P, 48 B14N, 49 B13P, 50 B13N, 51 B12P, 52 B12N, 53 B11P, 54 B11N, 55 B10P, 56 B10N, 57 B9P, 58 B9N, 59 B8P, 60 B8N, 62 B7P, 63 B7N, 64 B6P, 65 B6N, 66 B5P, 67 B5N, 68 B4P
part B pins: 10 GND, 11 DVDD3P3 (power), 12 GND, 13 GND, 14 AVDD3P3 (power), 15 GND, 16 REFIO (power), 19 AVDD1P8, 20 GND, 21 AVDD3P3 (power), 22 AVDD3P3 (power), 23 GND, 26 GND, 27 GND, 30 GND, 31 AVDD3P3 (power), 32 AVDD3P3 (power), 33 GND, 34 AVDD1P8, 35 AVCLK (power), 36 GND, 61 DVDD1P8 (power), EP GND

## MAX7322ATE+
designator IC?
Manufacturer: Maxim Integrated; Interface: I²C; Number of I/O: 4 (Input Only); Voltage - Supply: 1.7 V ~ 5.5 V; Interrupt Output: Yes; Current - Output Source/Sink: 20mA; Frequency - Clock: 400kHz; Supplier 1: Digi-Key; Mounting Type: Surface Mount; Category: Integrated Circuits (ICs); RoHS: RoHS Compliant; Packaging: Tube; Manufacturer Part Number: MAX7322ATE+; Supplier Device Package: 16-TQFN-EP (3x3); Package / Case: 16-WFQFN Exposed Pad; Operating Temperature: -40°C ~ 125°C; Features: POR; Output Type: -; Supplier Part Number 1: MAX7322ATE+-ND
footprint MAX7322ATE_QFN16
pins: 1 AD2, 2 O0, 3 O1, 4 I2, 5 I3, 6 GND, 7 I4, 8 I5, 9 O6, 10 O7, 11 ~{INT}, 12 SCL, 13 SDA, 14 V+, 15 AD0, 16 ~{RST}, 17 EP

## MAX11108AVB+T
designator IC?, comment MAX11108AVB
Part Description: 12 Bit Analog to Digital Converter 1 Input 1 SAR 10-UTQFN (2.1x1.6); Manufacturer: Maxim Integrated; Manufacturer Part Number 1: MAX11108AVB+T; Number of Bits: 12; Sampling Rate (Per Second): 3M; Number of Inputs: 1; Input Type: Single Ended; Data Interface: SPI; Configuration: S/H-ADC; Ratio - S/H:ADC: 1:1; Architecture: SAR; Reference Type: External; Voltage - Supply, Analog: 2.2 V ~ 3.6 V; Supplier 1: Digi-Key; RoHS: RoHS Compliant; Category: Integrated Circuits (ICs); Stock 1: 4253; Pricing 1: 1=4.05, 10=3.825, 25=3.06, 50=2.907, 100=2.6775, 250=2.5398, 500=2.44802 (USD); Packaging: Cut Tape (CT); Part Status: Active; Number of A/D Converters: 1; Voltage - Supply, Digital: 2.2 V ~ 3.6 V; Features: -; Operating Temperature: -40°C ~ 125°C; Package / Case: 10-UFQFN; Supplier Device Package: 10-UTQFN (2.1x1.6); ComponentLink1URL: http://datasheets.maximintegrated.com/en/ds/MAX11108.pdf; ComponentLink1Description: http://datasheets.maximintegrated.com/en/ds/MAX11108.pdf; Supplier Part Number 1: MAX11108AVB+TCT-ND
footprint MAX11108AVB+T
pins: 1 AIN (in), 2 AGND, 3 REF (in), 4 VDD (power), 5 AGND, 6 ~{CS} (in), 7 OVDD (power), 8 DOUT (out), 9 SCLK (in), 10 AGND

## MAX15050
designator IC?
Input Voltage MIN: 2.9 V; Output Voltage: 600 mV to 6 V; Output Current: 4 A; Brand: Maxim Integrated; Input Voltage MAX: 5.5 V; Supplier 1: Mouser; Minimum Operating Temperature: - 40 C; Series: MAX15050; Package / Case: WLP-16; Category: Voltage Regulators - Switching Regulators; Maximum Operating Temperature: + 85 C; Supplier Part Number 1: 700-MAX15050EWE+T
footprint MAX15050 (BGA, 16-Leads, Body 2,22x2,06mmx0,25mm, Pitch 0,50mm)
pins: A1 GND, A2 GND, A3 IN, A4 IN, B1 LX, B2 LX, B3 LX, B4 VDD, C1 BST, C2 I.C., C3 I.C., C4 EN, D1 PWRGD, D2 FB, D3 COMP, D4 REFIN/SS

## MAX15112
designator IC?
Development Kit: MAX15112EVKIT#; Topology: Buck; Brand: Maxim Integrated; Input Voltage MIN: 2.7 V; Input Voltage MAX: 5.5 V; Supplier 1: Mouser; Type: Current-Mode Synchronous Step-Down; Category: Voltage Regulators - Switching Regulators; Series: MAX15112; Package / Case: WLP-24; Maximum Operating Temperature: + 85 C; Minimum Operating Temperature: - 40 C; Supplier Part Number 1: 700-MAX15112EWG+
footprint MAX15112 (BGA, 24-Leads, Body 3,02x2,07mmx0,25mm, Pitch 0,50mm)
pins: A1 GND, A2 LX, A3 LX, A4 BST, A5 PGOOD, A6 GSNS, B1 GND, B2 LX, B3 LX, B4 IN, B5 N.C., B6 FB, C1 GND, C2 LX, C3 LX, C4 IN, C5 SKIP, C6 SS/REFIN, D1 GND, D2 GND, D3 AIN, D4 IN, D5 EN, D6 COMP

## MAX40200ANS+_IDEAL_DIODE
designator IC?, comment MAX40200ANS+
Part Description: OR Controller Source Selector Switch P-Channel 1:1 4-WLP (0.73x0.73); Manufacturer: Maxim; Turn-On Delay Time: 65us; Turn-Off Delay Time: 1.6ms; Max Output Current: 1.2A; Operating Supply Current: 7uA; Supplier 1: Digi-Key; Supplier Part Number 1: MAX40200ANS+-ND; Manufacturer Part Number 1: MAX40200ANS+; Stock 1: 0; RoHS: Yes; Mount: Surface Mount; Min Operating Temperature: -40°C; Max Operating Temperature: 125°C; Packaging: Rail/Tube; ComponentLink1URL: https://datasheets.maximintegrated.com/en/ds/MAX40200.pdf?src-supplier=Digi-Key; ComponentLink1Description: https://datasheets.maximintegrated.com/en/ds/MAX40200.pdf?src-supplier=Digi-Key
footprint MAX40200ANS+_IDEAL_DIODE_4WLP
pins: A1 VDD, A2 OUT, B1 EN, B2 G

## MAX40203AUK+T_ideal_diode
designator IC?, comment MAX40203AUK
Part Description: OR Controller Source Selector Switch P-Channel 1:1 SOT-23-5; Manufacturer: Maxim; Manufacturer Part Number 1: MAX40203AUK+T; Supplier 1: Digi-Key; Supplier Part Number 1: 175-MAX40203AUK+TCT-ND; Stock 1: 0; RoHS: Yes
footprint SOT23-5_v1
pins: 1 VDD (power), 2 GND (power), 3 EN (in), 4 NC, 5 OUT

## MBR0530T1G_shottky_diode
designator D?, comment MBR0530T1G
Part Description: Diode Schottky 30V 500mA Surface Mount SOD-123; Manufacturer: ON Semiconductor / Fairchild; Voltage: 30V; Average Rectified Current: 500mA; Element Configuration: Single; Max Surge Current: 5.5A; Max Reverse Leakage Current: 130uA; Forward Voltage: 430mV; Current: 5A; ComponentLink1URL: http://www.mouser.com/ds/2/427/mmsz5225-102133.pdf; ComponentLink1Description: http://www.mouser.com/ds/2/427/mmsz5225-102133.pdf; Supplier 1: Digi-Key; Manufacturer Part Number: MBR0530T1G; Stock 1: 121944; Pricing 1: 1 = 0,35000, 10 = 0,28600, 100 = 0,15180, 500 = 0,09986, 1000 = 0,06791 (USD); Mount: Surface Mount; Case/Package: SOD; Number of Pins: 2; Contact Plating: Matte,Tin; Min Operating Temperature: -65°C; Max Operating Temperature: 125°C; Package Quantity: 3000; Packaging: Tape and Reel; Max Reverse Voltage (DC): 30V; Forward Current: 500mA; Max Repetitive Reverse Voltage (Vrrm): 30V; Max Forward Surge Current (Ifsm): 5.5A; Peak Reverse Current: 130uA; Peak Non-Repetitive Surge Current: 5.5A; Length: 2.69mm; Height: 1.12mm; Width: 1.6mm; Radiation Hardening: No; REACH SVHC: No SVHC; ComponentLink2URL: http://www.farnell.com/datasheets/1708258.pdf; ComponentLink2Description: http://www.farnell.com/datasheets/1708258.pdf; ComponentLink3URL: https://www.distrelec.biz/Web/Downloads/26/_e/sz600926_e.pdf?mime=application%2Fpdf; ComponentLink3Description: https://www.distrelec.biz/Web/Downloads/26/_e/sz600926_e.pdf?mime=application%2Fpdf; ComponentLink4URL: http://www.onsemi.com/pub_link/Collateral/MBR0530T1-D.PDF; ComponentLink4Description: http://www.onsemi.com/pub_link/Collateral/MBR0530T1-D.PDF; ComponentLink5URL: http://www.alliedelec.com/m/d/65b97ea0ac6fde880d352b291ad3d7d6.pdf; ComponentLink5Description: http://www.alliedelec.com/m/d/65b97ea0ac6fde880d352b291ad3d7d6.pdf; ComponentLink6URL: http://www.farnell.com/datasheets/85890.pdf; ComponentLink6Description: http://www.farnell.com/datasheets/85890.pdf; ComponentLink7URL: http://www.onsemi.com/pub/Collateral/MBR0530T1-D.PDF; ComponentLink7Description: http://www.onsemi.com/pub/Collateral/MBR0530T1-D.PDF; Supplier Part Number 1: MBR0530T1GOSCT-ND
footprint MBR0530T1G_shottky_diode_SOD123
pins: A, C

## MBR0540T1G_shottky_diode
designator VD?, comment MBR0540T1G
Part Description: Diode Schottky 40V 500mA Surface Mount SOD-123; Manufacturer: ON Semiconductor; Manufacturer Part Number 1: MBR0540T1G; Supplier Part Number 1: MBR0540T1GOSCT-ND; Supplier 1: Digi-Key
footprint MBR0530T1G_shottky_diode_SOD123
pins: A, C

## MC100EL16DG
designator IC?
5.0 V ECL Differential Receiver; Manufacturer: ON Semiconductor; Manufacturer Part Number 1: MC100EL16DG; Supplier Part Number 1: 863-MC100EL16DG; Part Description: 5.0 V ECL Differential Receiver; Supplier 1: Mouser
footprint MC100EL16_SOIC-8
pins: 1 NC, 2 D, 3 ~{D}, 4 VBB (out), 5 VEE (power), 6 ~{Q}, 7 Q, 8 VCC (power)

## MC-1010-G_GNSS_MODULE
designator IC?, comment MC-1010-G
Part Description: LOCOSYS MC-1010-G complete standalone GNSS module; GPS, GLONASS, GALILEO, QZSS and SBAS, 99-channel GNSS, Up to 10 Hz update rate, ±11ns high accuracy time pulse (1PPS), 10.1 x 9.7 x 2 mm; Manufacturer: Locosys; Manufacturer Part Number 1: MC-1010-G; Supplier Part Number 1: MC-1010-G; Supplier 1: Locosys
footprint MC-1010-G_GNSS_MODULE
pins: 1 GND, 2 TX (out), 3 RX (in), 4 TIMEPULSE (out), 5 NC, 6 V_BCKP, 7 NC, 8 VCC (power), 9 NC, 10 GND, 11 RF_IN (in), 12 GND, 13 NC, 14 VCC_RF, 15 NC, 16 NC, 17 GPIO (io), 18 GPIO (io)

## MCP6D11T-E/MS_DIFF_OPAMP
designator IC?, comment MCP6D11T
Part Description: Current Sense Amplifier 1 Circuit Differential, Rail-to-Rail 8-MSOP; Manufacturer: Microchip; Manufacturer Part Number 1: MCP6D11T-E/MS; Supplier 1: DigiKey; Supplier Part Number 1: MCP6D11T-E/MSCT-ND; Stock 1: 1947; Pricing 1: 1=2,06, 25=1,71, 100=1,55 (USD); RoHS: Compliant; Projected EOL Date: 2044-12-20; Case/Package: MSOP; Country of Assembly: Thailand; Country of Fabrication: United States of America; Country of Origin: Thailand; Export Control Classification Number (ECCN) Code: EAR99; Harmonized Tariff Schedule (HTS) Code: 8542.33.0001; Introduction Date: 2018-12-20; Lifecycle Status: Production; Number of Pins: 8; ComponentLink1URL: https://datasheet.octopart.com:443/MCP6D11T-E-MS-Microchip-datasheet-147335762.pdf?src-supplier=Microchip; ComponentLink1Description: https://datasheet.octopart.com:443/MCP6D11T-E-MS-Microchip-datasheet-147335762.pdf?src-supplier=Microchip; ComponentLink2URL: https://datasheet.octopart.com:443/MCP6D11T-E-MS-Microchip-datasheet-16054322.pdf?src-supplier=Electro+Sonic; ComponentLink2Description: https://datasheet.octopart.com:443/MCP6D11T-E-MS-Microchip-datasheet-16054322.pdf?src-supplier=Electro+Sonic; ComponentLink3URL: http://sigma.octopart.com:80/188449170/materials_sheet/Microchip-MCP6D11T-E-MS.pdf?src-supplier=Compliance+Statements; ComponentLink3Description: http://sigma.octopart.com:80/188449170/materials_sheet/Microchip-MCP6D11T-E-MS.pdf?src-supplier=Compliance+Statements; ComponentLink4URL: http://sigma.octopart.com:80/rohs_statement/Microchip-company-71.pdf?src-supplier=Compliance+Statements; ComponentLink4Description: http://sigma.octopart.com:80/rohs_statement/Microchip-company-71.pdf?src-supplier=Compliance+Statements; ComponentLink5URL: http://sigma.octopart.com:80/reach_statement/Microchip-company-70.pdf?src-supplier=Compliance+Statements; ComponentLink5Description: http://sigma.octopart.com:80/reach_statement/Microchip-company-70.pdf?src-supplier=Compliance+Statements; ComponentLink6URL: http://sigma.octopart.com:80/conflict_mineral_statement/Microchip-company-69.pdf?src-supplier=Compliance+Statements; ComponentLink6Description: http://sigma.octopart.com:80/conflict_mineral_statement/Microchip-company-69.pdf?src-supplier=Compliance+Statements; ComponentLink7URL: http://sigma.octopart.com:80/conflict_mineral_statement/Microchip-company-68.pdf?src-supplier=Compliance+Statements; ComponentLink7Description: http://sigma.octopart.com:80/conflict_mineral_statement/Microchip-company-68.pdf?src-supplier=Compliance+Statements
footprint MCP6D11T-E/MS_SOIC-8
pins: 1 IN- (in), 2 VOCM (in), 3 VDD (power), 4 OUT+ (out), 5 OUT- (out), 6 VSS, 7 ~{PD} (in), 8 IN+ (in)

## MCP1525T-I/TT
designator IC?
2.5V Voltage Reference, 3-Pin SOT-23, Industrial Temperature, Tape and Reel; Manufacturer: Microchip Technology; Manufacturer Part Number 1: MCP1525T-I/TT; Reference Type: Series; Output Type: Fixed; Current - Output: 2mA; Tolerance: ±1%; Temperature Coefficient: 50ppm/°C; Noise - 0.1Hz to 10Hz: 90µVp-p; Noise - 10Hz to 10kHz: 500µVrms; Voltage - Input: 2.7 V ~ 5.5 V; Current - Supply: 120µA; PackageDescription: Series Voltage Reference IC ±1% 2mA SOT-23-3; Supplier 1: Digi-Key; RoHS: RoHS Compliant; Category: Integrated Circuits (ICs); Stock 1: 16612; Pricing 1: 1=0.77, 25=0.64, 100=0.58 (USD); Packaging: Digi-Reel®; Part Status: Active; Voltage - Output (Min/Fixed): 2.5V; Voltage - Output (Max): -; Current - Cathode: -; Operating Temperature: -40°C ~ 85°C (TA); Mounting Type: Surface Mount; Package / Case: TO-236-3, SC-59, SOT-23-3; Supplier Device Package: SOT-23-3; ComponentLink1URL: http://www.microchip.com/mymicrochip/filehandler.aspx?ddocname=en011331; ComponentLink1Description: http://www.microchip.com/mymicrochip/filehandler.aspx?ddocname=en011331; Supplier Part Number 1: MCP1525T-I/TTDKR-ND
footprint SOT23-3_v2 (SOT23, 3 pin)
pins: 1 IN (power), 2 OUT (power), 3 VSS (power)

## MCP3204-BI/SL
designator IC?, comment MCP3204
2.7V 4-Channel/8-Channel 12-Bit A/D Converters with SPI Serial Interface, 14-Pin SOIC 150mil, B Performance Grade, Industrial Temperature; Manufacturer: Microchip; PartNumber: MCP3204-BI/SL; DatasheetVersion: revE, Sep-2008; PackageVersion: revBB, Aug-2009; PackageReference: SOIC-SL14; PackageDescription: 14-Lead Plastic Small Outline (SL) - Narrow, 3.90mm Body [SOIC]; Supplier 1: Digi-Key; Supplier Part Number 1: MCP3204-BI/SL-ND; Supplier 2: Farnell; Supplier Part Number 2: 1852019; Supplier 3: Newark; Supplier Part Number 3: 23C2838; Supplier 4: Mouser; Supplier Part Number 4: 579-MCP3204-BI/SL; Mounting Technology: Surface Mount; Code_JEDEC: MS-012-AB; Code_IPC: SOIC127P600-14; ComponentLink1Description: Manufacturer URL; ComponentLink1URL: http://www.microchip.com/; ComponentLink2Description: Datasheet; ComponentLink2URL: http://ww1.microchip.com/downloads/en/DeviceDoc/21298e.pdf; ComponentLink3Description: Package Specification; ComponentLink3URL: http://www.microchip.com/stellent/groups/techpub_sg/documents/packagingspec/en012702.pdf
footprint SOIC-SL14_M (SOIC, 14-Leads, Body 8.7x3.9mm, Pitch 1.27mm, IPC Low Density)
pins: 1 CH0 (in), 2 CH1 (in), 3 CH2 (in), 4 CH3 (in), 5 NC, 6 NC, 7 DGND (power), 8 ~{CS}/SHDN (in), 9 DIN (in), 10 DOUT (hiz), 11 CLK (in), 12 AGND (power), 13 VREF (in), 14 VDD (power)

## MCP3208-CI/SL
designator IC?, comment MCP3208
2.7V 4-Channel/8-Channel 12-Bit A/D Converters with SPI Serial Interface, 16-Pin SOIC 150mil, C Performance Grade, Industrial Temperature; Manufacturer: Microchip; PartNumber: MCP3208-CI/SL; Manufacturer Part Number 1: MCP3208T-CI/SL; Part Description: 12 Bit Analog to Digital Converter 4, 8 Input 1 SAR 16-SOIC; PackageVersion: revBB, Aug-2009; PackageReference: SOIC-SL16; PackageDescription: 16-Lead Plastic Small Outline (SL) - Narrow, 3.90mm Body [SOIC]; Supplier 1: Digi-Key; Mounting Technology: Surface Mount; Supplier Part Number 1: MCP3208T-CI/SLCT-ND
footprint MCP3208-CI/SL_SOIC16 (SOIC, 16-Leads, Body 9.9x3.9mm, Pitch 1.27mm, IPC Low Density)
pins: 1 CH0 (in), 2 CH1 (in), 3 CH2 (in), 4 CH3 (in), 5 CH4 (in), 6 CH5 (in), 7 CH6 (in), 8 CH7 (in), 9 DGND (power), 10 ~{CS}/SHDN (in), 11 DIN (in), 12 DOUT (hiz), 13 CLK (in), 14 AGND (power), 15 VREF (in), 16 VDD (power)

## MCP4251
designator IC?
Manufacturer Part Number 1: MCP4251-103E/SL; Manufacturer: Microchip Technology; Configuration: Potentiometer; Voltage - Supply: 1.8 V ~ 5.5 V; Resistance - Wiper (Ohms) (Typ): 75; Temperature Coefficient (Typ): 150 ppm/°C; Number of Taps: 257; Interface: SPI; Memory Type: Volatile; Number of Circuits: 2; Resistance (Ohms): 10k; Supplier 1: Digi-Key; RoHS: RoHS Compliant; Category: Integrated Circuits (ICs); Features: -; Operating Temperature: -40°C ~ 125°C; Supplier Device Package: 14-SOIC; Tolerance: -; Package / Case: 14-SOIC (0.154", 3.90mm Width); Packaging: Tube; Taper: Linear; Supplier Part Number 1: MCP4251-103E/SL-ND
footprint SOIC14 (14-Pin Small Outline Integrated Circuit 1.27 mm Pitch)
pins: 1 ~{CS} (in), 2 SCK (in), 3 SDI (in), 4 VSS (in), 5 P1B (in), 6 P1W (in), 7 P1A (in), 8 P0A (in), 9 P0W (in), 10 P0B (in), 11 ~{WP} (in), 12 ~{SHDN} (in), 13 SDO (in), 14 VDD (power)

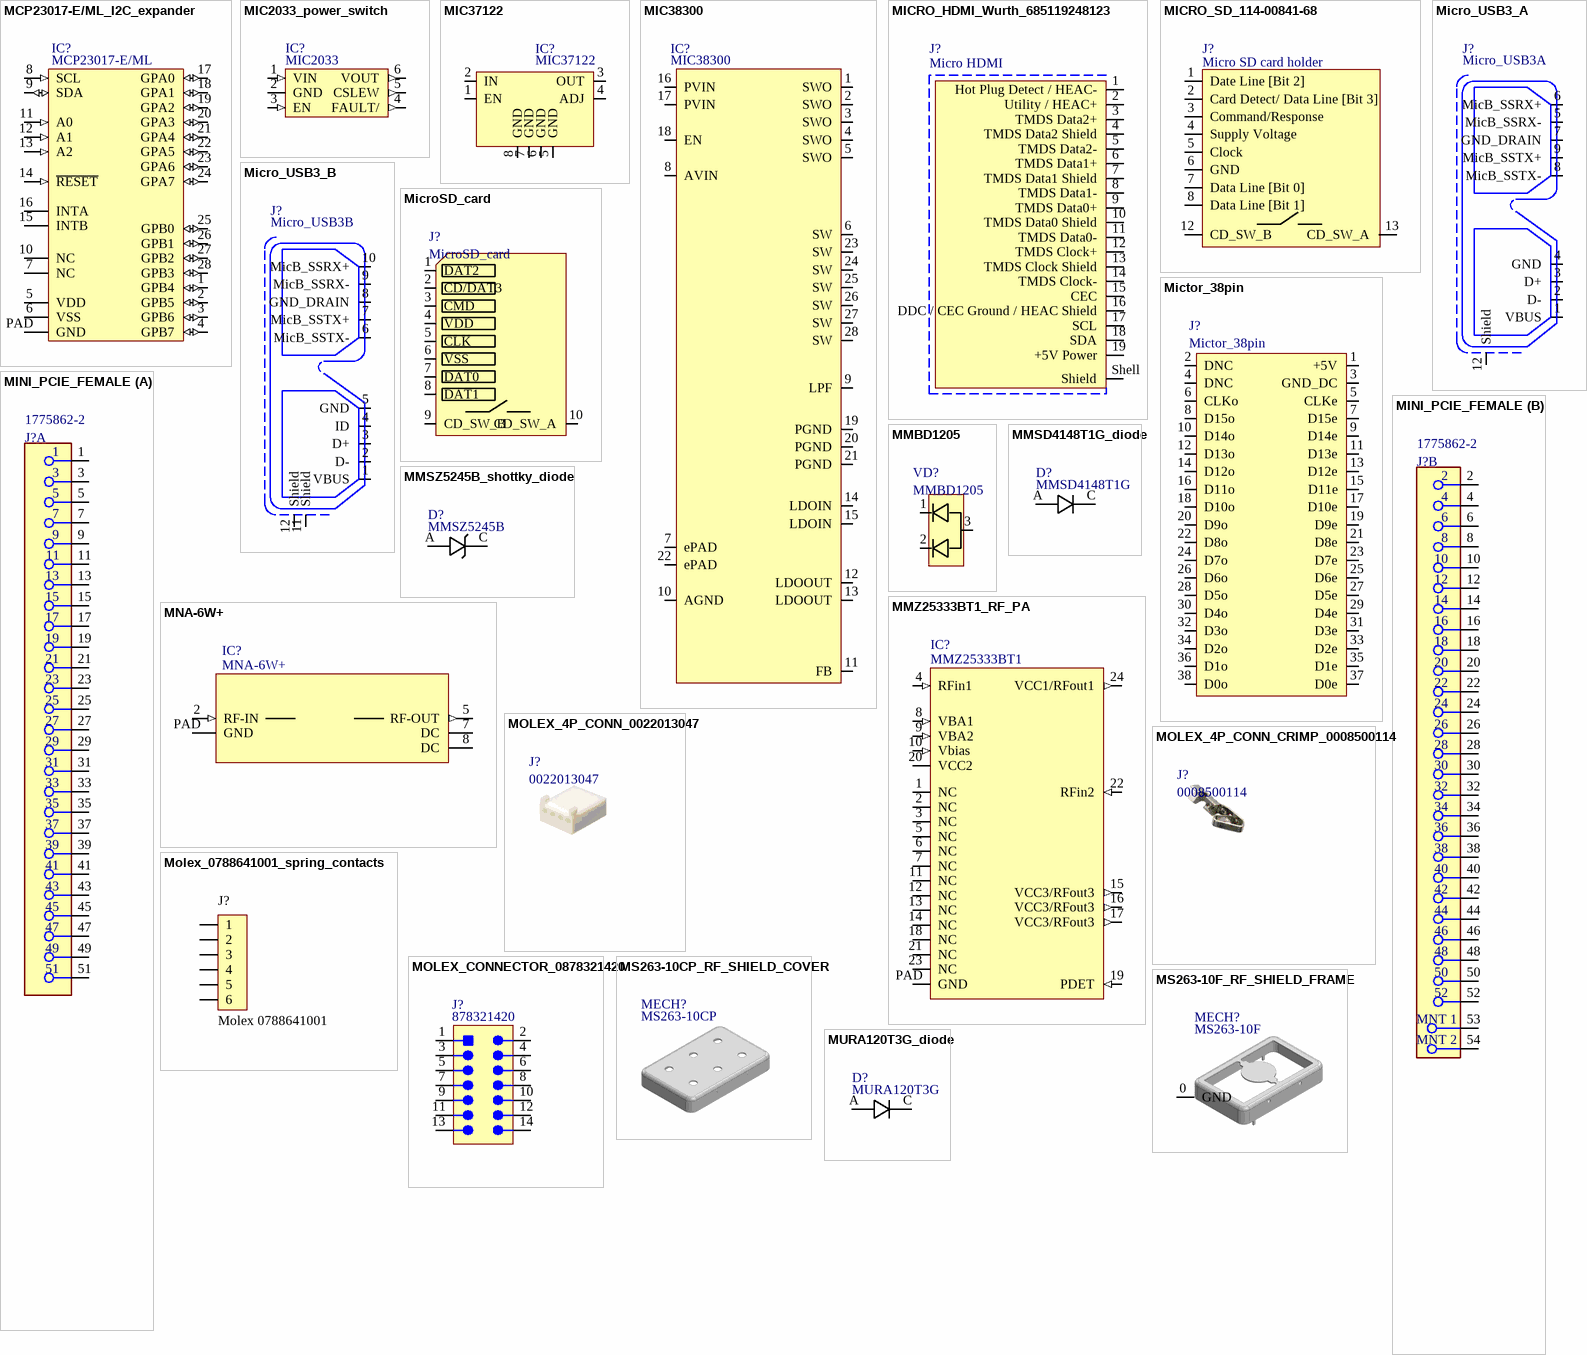
[diagram p61: symbols MCP23017-E/ML_I2C_expander to MURA120T3G_diode]